# Altium integrated library pass_comp.IntLib: 5 symbols
Pins are listed as number, name and electrical type; pins without a type are passive.

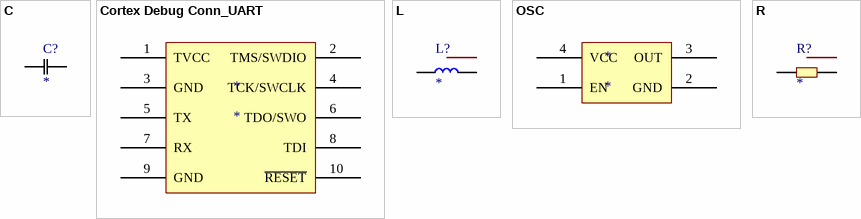
[diagram p0: symbols C to R]

## C
designator C?
Capacitor
footprint 402
footprint 805
footprint 1206
footprint 603
pins: 1, 2

## Cortex Debug Conn_UART
designator *
footprint Cortex Debug Connector
footprint Cortex Debug Connector - THT
pins: 1 TVCC, 2 TMS/SWDIO, 3 GND, 4 TCK/SWCLK, 5 TX, 6 TDO/SWO, 7 RX, 8 TDI, 9 GND, 10 ~{RESET}

## L
designator L?
Inductor
footprint 3-0603 (Chip Resistor; Body 1.6 x 0.9 mm (LxW typ))
footprint 6-0805 (Chip Resistor; Body 2 x 1.2 mm (LxW typ))
footprint 1206
pins: 1, 2

## OSC
designator *
footprint CRYST_3.4x2.7
footprint CRYST_7x5
footprint CRYST_5x3.2
footprint CRYST_all
pins: 1 EN, 2 GND, 3 OUT, 4 VCC

## R
designator R?
Resistor
footprint 402
footprint 603
footprint 805
footprint 1206
pins: 1, 2